# EAGLE library part CMWX1ZZABZ (library balto)
Murata LoRa Module
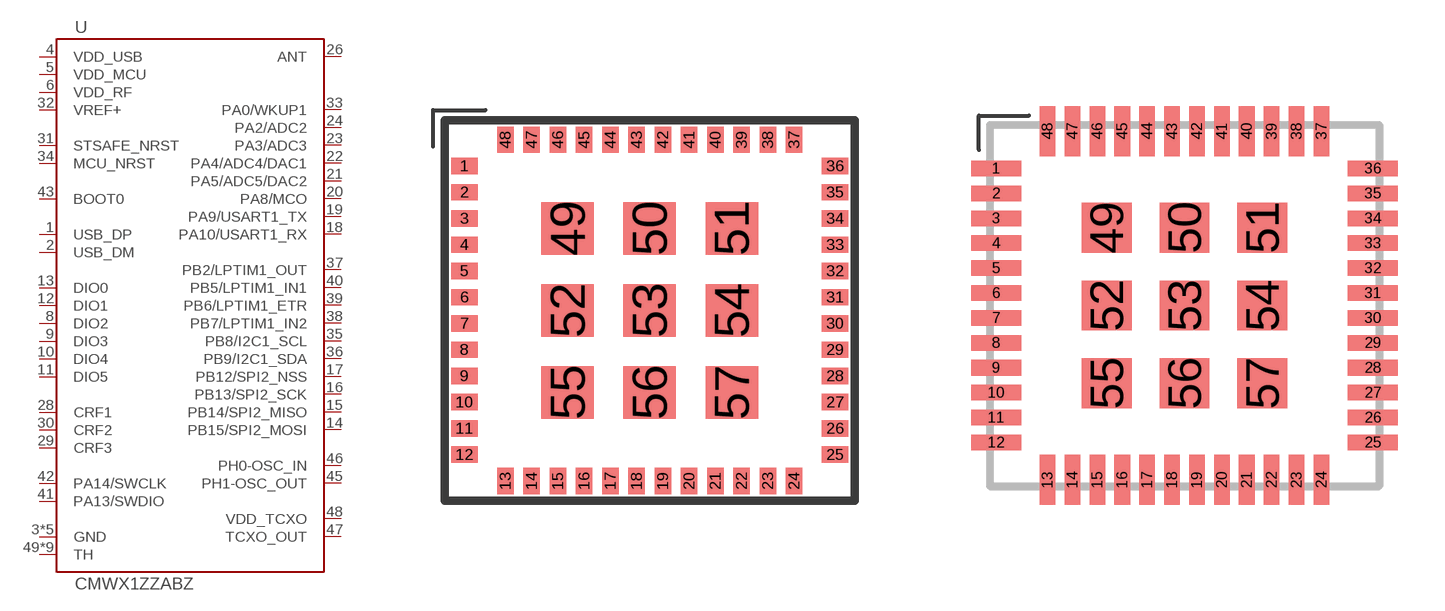
[diagram p50: symbol with the pads of CMWX1ZZABZ; footprints CMWX1ZZABZ, CMWX1ZZABZ-LONGPAD]

Designator prefix U

## CMWX1ZZABZ  [CMWX1ZZABZ]
1  USB_DP
2  USB_DM
3  GND
4  VDD_USB
5  VDD_MCU
6  VDD_RF
7  GND
8  DIO2
9  DIO3
10  DIO4
11  DIO5
12  DIO1
13  DIO0
14  PB15/SPI2_MOSI
15  PB14/SPI2_MISO
16  PB13/SPI2_SCK
17  PB12/SPI2_NSS
18  PA10/USART1_RX
19  PA9/USART1_TX
20  PA8/MCO
21  PA5/ADC5/DAC2
22  PA4/ADC4/DAC1
23  PA3/ADC3
24  PA2/ADC2
25  GND
26  ANT
27  GND
28  CRF1
29  CRF3
30  CRF2
31  STSAFE_NRST
32  VREF+
33  PA0/WKUP1
34  MCU_NRST
35  PB8/I2C1_SCL
36  PB9/I2C1_SDA
37  PB2/LPTIM1_OUT
38  PB7/LPTIM1_IN2
39  PB6/LPTIM1_ETR
40  PB5/LPTIM1_IN1
41  PA13/SWDIO
42  PA14/SWCLK
43  BOOT0
44  GND
45  PH1-OSC_OUT
46  PH0-OSC_IN
47  TCXO_OUT
48  VDD_TCXO
49  TH
50  TH
51  TH
52  TH
53  TH
54  TH
55  TH
56  TH
57  TH

## CMWX1ZZABZLONGPAD  [CMWX1ZZABZ-LONGPAD]
Pads as for CMWX1ZZABZ

## Footprint CMWX1ZZABZ (pad centres in mm)
Murata LoRa Module
smd 0.8 x 0.5: 1 -5.65,4.4; 2 -5.65,3.6; 3 -5.65,2.8; 4 -5.65,2; 5 -5.65,1.2; 6 -5.65,0.4; 7 -5.65,-0.4; 8 -5.65,-1.2; 9 -5.65,-2; 10 -5.65,-2.8; 11 -5.65,-3.6; 12 -5.65,-4.4; 25 5.65,-4.4; 26 5.65,-3.6; 27 5.65,-2.8; 28 5.65,-2; 29 5.65,-1.2; 30 5.65,-0.4; 31 5.65,0.4; 32 5.65,1.2; 33 5.65,2; 34 5.65,2.8; 35 5.65,3.6; 36 5.65,4.4
smd 0.5 x 0.8: 13 -4.4,-5.2; 14 -3.6,-5.2; 15 -2.8,-5.2; 16 -2,-5.2; 17 -1.2,-5.2; 18 -0.4,-5.2; 19 0.4,-5.2; 20 1.2,-5.2; 21 2,-5.2; 22 2.8,-5.2; 23 3.6,-5.2; 24 4.4,-5.2; 37 4.4,5.2; 38 3.6,5.2; 39 2.8,5.2; 40 2,5.2; 41 1.2,5.2; 42 0.4,5.2; 43 -0.4,5.2; 44 -1.2,5.2; 45 -2,5.2; 46 -2.8,5.2; 47 -3.6,5.2; 48 -4.4,5.2
smd 1.6 x 1.6: 49 -2.5,2.5; 50 0,2.5; 51 2.5,2.5; 52 -2.5,0; 53 0,0; 54 2.5,0; 55 -2.5,-2.5; 56 0,-2.5; 57 2.5,-2.5

## Footprint CMWX1ZZABZ-LONGPAD (pad centres in mm)
Murata LoRa Module
smd 1.6 x 0.5: 1 -6.05,4.4; 2 -6.05,3.6; 3 -6.05,2.8; 4 -6.05,2; 5 -6.05,1.2; 6 -6.05,0.4; 7 -6.05,-0.4; 8 -6.05,-1.2; 9 -6.05,-2; 10 -6.05,-2.8; 11 -6.05,-3.6; 12 -6.05,-4.4; 25 6.05,-4.4; 26 6.05,-3.6; 27 6.05,-2.8; 28 6.05,-2; 29 6.05,-1.2; 30 6.05,-0.4; 31 6.05,0.4; 32 6.05,1.2; 33 6.05,2; 34 6.05,2.8; 35 6.05,3.6; 36 6.05,4.4
smd 0.5 x 1.6: 13 -4.4,-5.6; 14 -3.6,-5.6; 15 -2.8,-5.6; 16 -2,-5.6; 17 -1.2,-5.6; 18 -0.4,-5.6; 19 0.4,-5.6; 20 1.2,-5.6; 21 2,-5.6; 22 2.8,-5.6; 23 3.6,-5.6; 24 4.4,-5.6; 37 4.4,5.6; 38 3.6,5.6; 39 2.8,5.6; 40 2,5.6; 41 1.2,5.6; 42 0.4,5.6; 43 -0.4,5.6; 44 -1.2,5.6; 45 -2,5.6; 46 -2.8,5.6; 47 -3.6,5.6; 48 -4.4,5.6
smd 1.6 x 1.6: 49 -2.5,2.5; 50 0,2.5; 51 2.5,2.5; 52 -2.5,0; 53 0,0; 54 2.5,0; 55 -2.5,-2.5; 56 0,-2.5; 57 2.5,-2.5